# Altium schematic symbol library SCH - POWER - LINEAR VREG - TI LP3985IM5-2.5.SchLib: 1 symbol
Pins are listed as number, name and electrical type; pins without a type are passive.

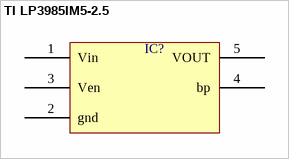
[diagram p0: symbol TI LP3985IM5-2.5]

## TI LP3985IM5-2.5
designator IC?  (value not drawn)
pins: 1 Vin, 2 gnd, 3 Ven, 4 bp, 5 VOUT